# Altium schematic symbol library SCH - BOOST - TI TPS61093QDSKRQ1.Schlib: 1 symbol
Pins are listed as number, name and electrical type; pins without a type are passive.

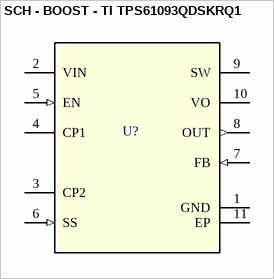
[diagram p0: symbol SCH - BOOST - TI TPS61093QDSKRQ1]

## SCH - BOOST - TI TPS61093QDSKRQ1
designator U?
Application_BuildNumber: *
footprint DSK0010A
pins: 1 GND (power), 2 VIN (power), 3 CP2, 4 CP1, 5 EN (in), 6 SS (in), 7 FB (in), 8 OUT (out), 9 SW (power), 10 VO (power), 11 EP (power)